# EAGLE library part WIO-LR1121 (library UNIT_Biblioteca_Modulos)
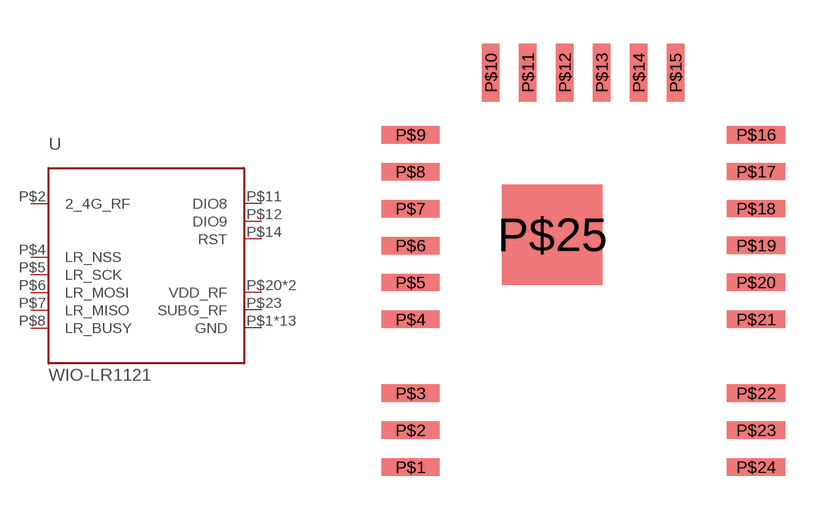
[diagram p38: symbol with the pads of WIO-LR1121; footprint WIO-LR1121]

Designator prefix U

## WIO-LR1121  [WIO-LR1121]
P$1  GND
P$2  2_4G_RF
P$3  GND
P$4  LR_NSS
P$5  LR_SCK
P$6  LR_MOSI
P$7  LR_MISO
P$8  LR_BUSY
P$9  GND
P$10  GND
P$11  DIO8
P$12  DIO9
P$13  GND
P$14  RST
P$15  GND
P$16  GND
P$17  GND
P$18  GND
P$19  GND
P$20  VDD_RF
P$21  VDD_RF
P$22  GND
P$23  SUBG_RF
P$24  GND
P$25  GND

## Footprint WIO-LR1121 (pad centres in mm)
smd 2 x 0.6: P$1 -5.941,-5.08; P$2 -5.941,-3.81; P$3 -5.941,-2.54; P$4 -5.941,0; P$5 -5.941,1.27; P$6 -5.941,2.54; P$7 -5.941,3.81; P$8 -5.941,5.08; P$9 -5.941,6.35; P$16 5.938,6.353; P$17 5.938,5.083; P$18 5.938,3.813; P$19 5.938,2.543; P$20 5.938,1.273; P$21 5.938,0.003; P$22 5.938,-2.537; P$23 5.938,-3.807; P$24 5.938,-5.077
smd 0.6 x 2: P$10 -3.177,8.484; P$11 -1.907,8.484; P$12 -0.637,8.484; P$13 0.633,8.484; P$14 1.903,8.484; P$15 3.173,8.484
smd 3.45 x 3.45: P$25 -1.07,2.91